# Altium footprint library TI_10WSON.PcbLib: 1 footprints
Each footprint in its own frame and in the unit in brackets; x right, y up, seen from the top. Pads: shape width x height; smd on the part's side, far side on the other; paste and mask are expansions set on the pad; w line width, h text height; cw(c..) or ccw(c..) is an arc to the next point about the centre after c.
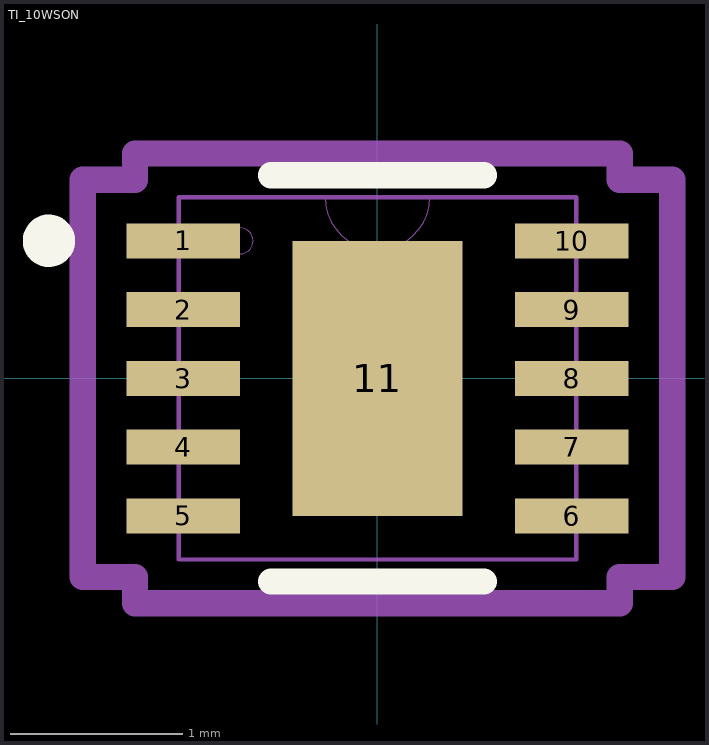
[diagram p0: the footprint, top view; thin cyan lines are the x and y axes]

## TI_10WSON [mil]
pads (11):
  rect 26x8 smd paste+0 mask+0: 1(-44.5,31.5) 2(-44.5,15.75) 3(-44.5,0) 4(-44.5,-15.75) 5(-44.5,-31.5) 6(44.5,-31.5) 7(44.5,-15.75) 8(44.5,0) 9(44.5,15.75) 10(44.5,31.5)
  rect 39x63 smd paste+0 mask+0: 11(0,0)
Top Overlay:
  circle w6: c-75.25,31.5 r3
  lines w6: -24.39,-46.5 24.39,-46.5 ; -24.39,46.5 24.39,46.5
Top 3D Body:
  circle w0: c-31.5,31.5 r3
  lines w0: -12,41.5 ccw(c0,41.5) 12,41.5
  lines w1: -45.5,-41.5 45.5,-41.5 45.5,41.5 -45.5,41.5 -45.5,-41.5
Top Courtyard:
  lines w6: -67.5,-45.5 -67.5,45.5 -55.5,45.5 -55.5,51.5 55.5,51.5 55.5,45.5 67.5,45.5 67.5,-45.5 55.5,-45.5 55.5,-51.5 -55.5,-51.5 -55.5,-45.5 -67.5,-45.5
3D body "WSON10_DLH_TEX.step": height 32.09, standoff 0, extent -45.51,-41.5 45.51,41.5